# Altium schematic symbol library SCH_LIB_JD.SchLib: 12 symbols
Pins are listed as number, name and electrical type; pins without a type are passive.

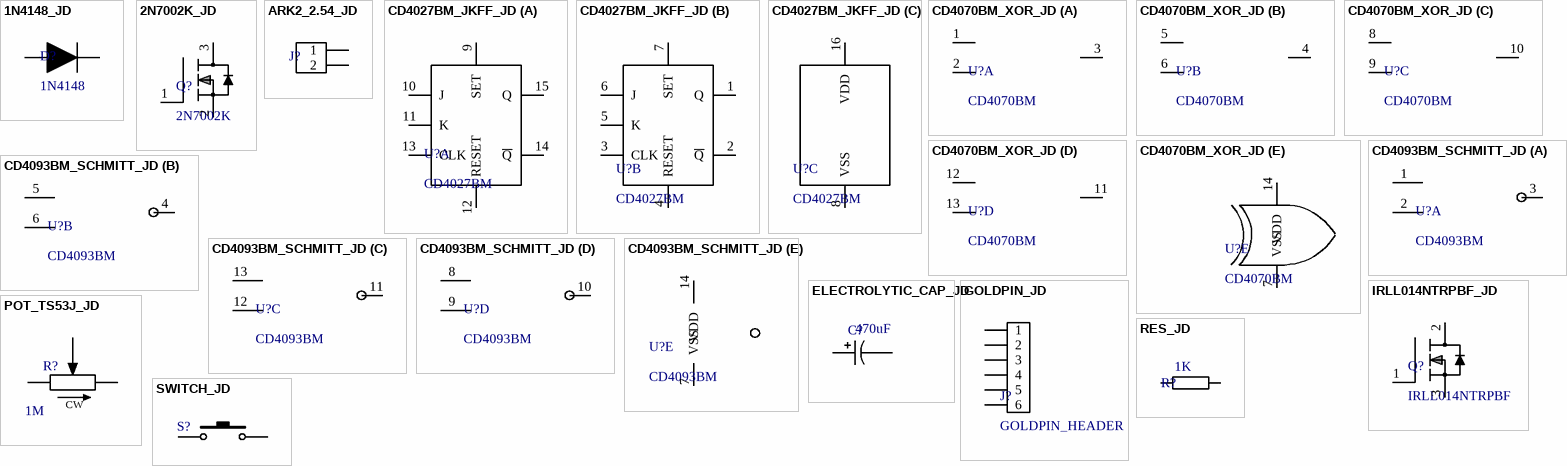
[diagram p0: symbols 1N4148_JD to SWITCH_JD]

## 1N4148_JD
designator D?, comment 1N4148
MAX POWER: 500mW; MAX CURRENT: 150mA; Supplier 1: TME; Supplier Part Number 1: 1N4148-1206; helpURL: https://www.tme.eu/Document/8a0f4bd1d0e0495ebb1834ba060fbfa0/CD4148.pdf
footprint D0603_JD (Footprint not found)
pins: A Anode, K Katode

## 2N7002K_JD
designator Q?, comment 2N7002K
Drain Current: 380mA; MAX POWER: 300mW; Supplier 1: TME; Supplier Part Number 1: 2N7002K-7
footprint SOT23_JD (Footprint not found)
pins: 1 G, 2 S, 3 D

## ARK2_2.54_JD
designator J?, comment ARK_2.54  (value not drawn)
MAX Current: 6A; MAX Voltage: 150; Supplier 1: TME; Supplier Part Number 1: DG308-2.54-02P; helpURL: https://www.tme.eu/Document/e399f683de63f8ff6d8fcb1baa663eaf/DG308-2.54.pdf
footprint ARK_DG308-2.54x2_JD
pins: 1, 2

## CD4027BM_JKFF_JD
designator U?, comment CD4027BM
Supplier 1: TME; Supplier Part Number 1: CD4027BM; CASE: SOP16; helpURL: https://www.ti.com/lit/ds/symlink/cd4027b-mil.pdf
footprint SO16_JD
part A pins: 9 SET, 10 J, 11 K, 12 RESET, 13 CLK, 14 ~{Q}, 15 Q
part B pins: 1 Q, 2 ~{Q}, 3 CLK, 4 RESET, 5 K, 6 J, 7 SET
part C pins: 8 VSS, 16 VDD

## CD4070BM_XOR_JD
designator U?, comment CD4070BM
helpURL: http://www.ti.com/lit/ds/symlink/cd4077b.pdf; Supplier 1: TME; Supplier Part Number 1: CD4070BM; CASE: SO14
footprint SO14_JD
part A pins: 1 A, 2 A, 3 J
part B pins: 4 K, 5 C, 6 D
part C pins: 8 E, 9 F, 10 L
part D pins: 11 M, 12 G, 13 H
part E pins: 7 VSS, 14 VDD

## CD4093BM_SCHMITT_JD
designator U?, comment CD4093BM
Supplier 1: TME; Supplier Part Number 1: CD4093BM; helpURL: https://www.ti.com/lit/ds/symlink/cd4093b.pdf
footprint SO14_JD
part A pins: 1 A, 2 B, 3 J
part B pins: 4 K, 5 C, 6 D
part C pins: 11 M, 12 G, 13 H
part D pins: 8 E, 9 F, 10 L
part E pins: 7 VSS, 14 VDD

## ELECTROLYTIC_CAP_JD
designator C?  value 470uF
Published: 8-Jun-2000; LatestRevisionDate: 17-Jul-2002; LatestRevisionNote: Re-released for DXP Platform.; PackageReference: POLAR0.8; Publisher: Altium Limited; PackageDescription: Polarized Capacitor; 2 Leads; Supplier 1: TME; Supplier Part Number 1: EEEFP1C471AP
simulation model CAP (Capacitor)
signal-integrity model Cap Pol
footprint POL_CAP_JD
pins: 1, 2
1 alternate drawing of the same symbol

## GOLDPIN_JD
designator J?, comment GOLDPIN_HEADER
helpURL: https://www.tme.eu/Document/719e00d14e261a014e3a7e1c938a6b50/77311-818-XXLF.pdf; Supplier 1: TME; Supplier Part Number 1: 77311-818-06LF
footprint GOLDPINx6_JD (Footprint not found)
pins: 1, 2, 3, 4, 5, 6

## IRLL014NTRPBF_JD
designator Q?, comment IRLL014NTRPBF
Drain Current: 2A; MAX POWER: 2.1W; Supplier 1: TME; Supplier Part Number 1: IRLL014NTRPBF
footprint SOT223_JD (SOT223, 4-Leads, Body 6.5x3.5mm, Pitch 2.3mm, Lead Span 7mm, IPC High Density)
pins: 1 G, 2 D, 3 S

## POT_TS53J_JD
designator R?, comment value 1M  (hidden comment: TRIMPOT)
RATED POWER: 0.25W; Supplier 1: TME; Supplier Part Number 1: TS53YJ1M; helpURL: https://www.tme.eu/Document/214820d8bf228e416b0cbb84d9c6ed07/ts53yj.pdf
footprint J_VISHAY_JD (Footprint not found)
pins: 1, 2, 3
text: CW

## RES_JD
designator R?  value 1K  (hidden comment: RES_JD)
Resistor; Published: 8-Jun-2000; LatestRevisionDate: 17-Jul-2002; LatestRevisionNote: Re-released for DXP Platform.; PackageReference: AXIAL-0.4; Publisher: Altium Limited; PackageDescription: Axial Device, Thru-Hole; 2 Leads; 0.4 in Pin Spacing; helpURL: https://www.tme.eu/Document/9e42ba54d36a9bd3dfa2901986ac022d/rezystor-smd.pdf; Supplier 1: TME; Supplier Part Number 1: 0603SAF1000T5E
simulation model RESISTOR (Resistor)
signal-integrity model Res
footprint R0603_JD
pins: 1, 2

## SWITCH_JD
designator S?  (value not drawn)
Switch; Published: 24-Mar-1999; LatestRevisionDate: 17-Jul-2002; LatestRevisionNote: Re-released for DXP Platform.; PackageReference: SPST-2; Publisher: Altium Limited; PackageDescription: Switch; 2 Leads; Supplier 1: TME; Supplier Part Number 1: B3F-4055
footprint SPST_JD (Footprint not found)
pins: 1, 3